# Altium schematic symbol library PESD2CANFD24V-UX.SchLib: 1 symbol
Pins are listed as number, name and electrical type; pins without a type are passive.

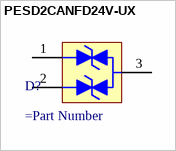
[diagram p0: symbol PESD2CANFD24V-UX]

## PESD2CANFD24V-UX
designator D?
=Description
pins: 1, 2, 3